# EAGLE library part 10P_HEADER (library TRISThisConnectors)
Buchanan 282834-10
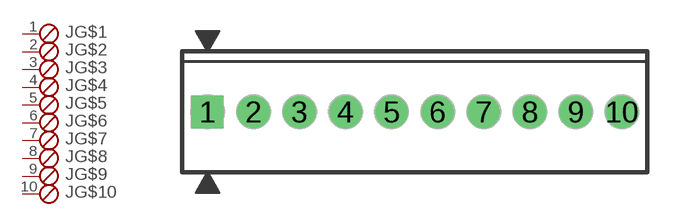
[diagram p2: symbol with the pads of 10POL254; footprint 10POL254]

Designator prefix J; gates G$1=SKB G$2=SKB G$3=SKB G$4=SKB G$5=SKB G$6=SKB G$7=SKB G$8=SKB G$9=SKB G$10=SKB

## 10P_HEADER  [10POL254]
1  G$1:1  pas
2  G$2:1  pas
3  G$3:1  pas
4  G$4:1  pas
5  G$5:1  pas
6  G$6:1  pas
7  G$7:1  pas
8  G$8:1  pas
9  G$9:1  pas
10  G$10:1  pas

## Footprint 10POL254 (pad centres in mm)
drill 1.2 square: 1 -11.43,0
drill 1.2 round: 2 -8.89,0; 3 -6.35,0; 4 -3.81,0; 5 -1.27,0; 6 1.27,0; 7 3.81,0; 8 6.35,0; 9 8.89,0; 10 11.43,0